# EAGLE library part LB8 (library cwParts)
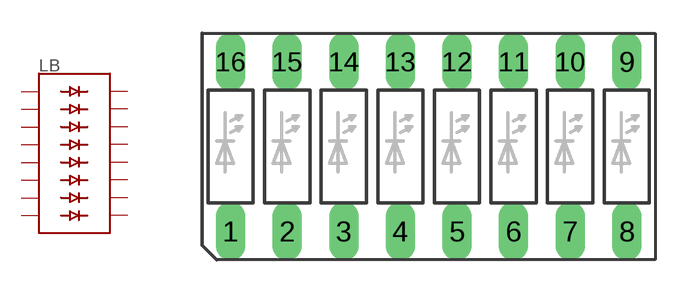
[diagram p3: symbol with the pads of LB8; footprint LB8]

Designator prefix LB

## LB8  [LB8]
1  A0  pas
2  A1  pas
3  A2  pas
4  A3  pas
5  A4  pas
6  A5  pas
7  A6  pas
8  A7  pas
9  C7  pas
10  C6  pas
11  C5  pas
12  C4  pas
13  C3  pas
14  C2  pas
15  C1  pas
16  C0  pas

## Footprint LB8 (pad centres in mm)
LED BLOCK 10-LED bar graph, DIL, Siemens
drill 0.813 long: 1 -11.43,-3.81; 2 -8.89,-3.81; 3 -6.35,-3.81; 4 -3.81,-3.81; 5 -1.27,-3.81; 6 1.27,-3.81; 7 3.81,-3.81; 8 6.35,-3.81; 9 6.35,3.81; 10 3.81,3.81; 11 1.27,3.81; 12 -1.27,3.81; 13 -3.81,3.81; 14 -6.35,3.81; 15 -8.89,3.81; 16 -11.43,3.81